# Altium footprint library aPassive.PcbLib: 212 footprints (part 4 of 14)
Each footprint in its own frame and in the unit in brackets; x right, y up, seen from the top. Pads: shape width x height; smd on the part's side, far side on the other; paste and mask are expansions set on the pad; w line width, h text height; cw(c..) or ccw(c..) is an arc to the next point about the centre after c.
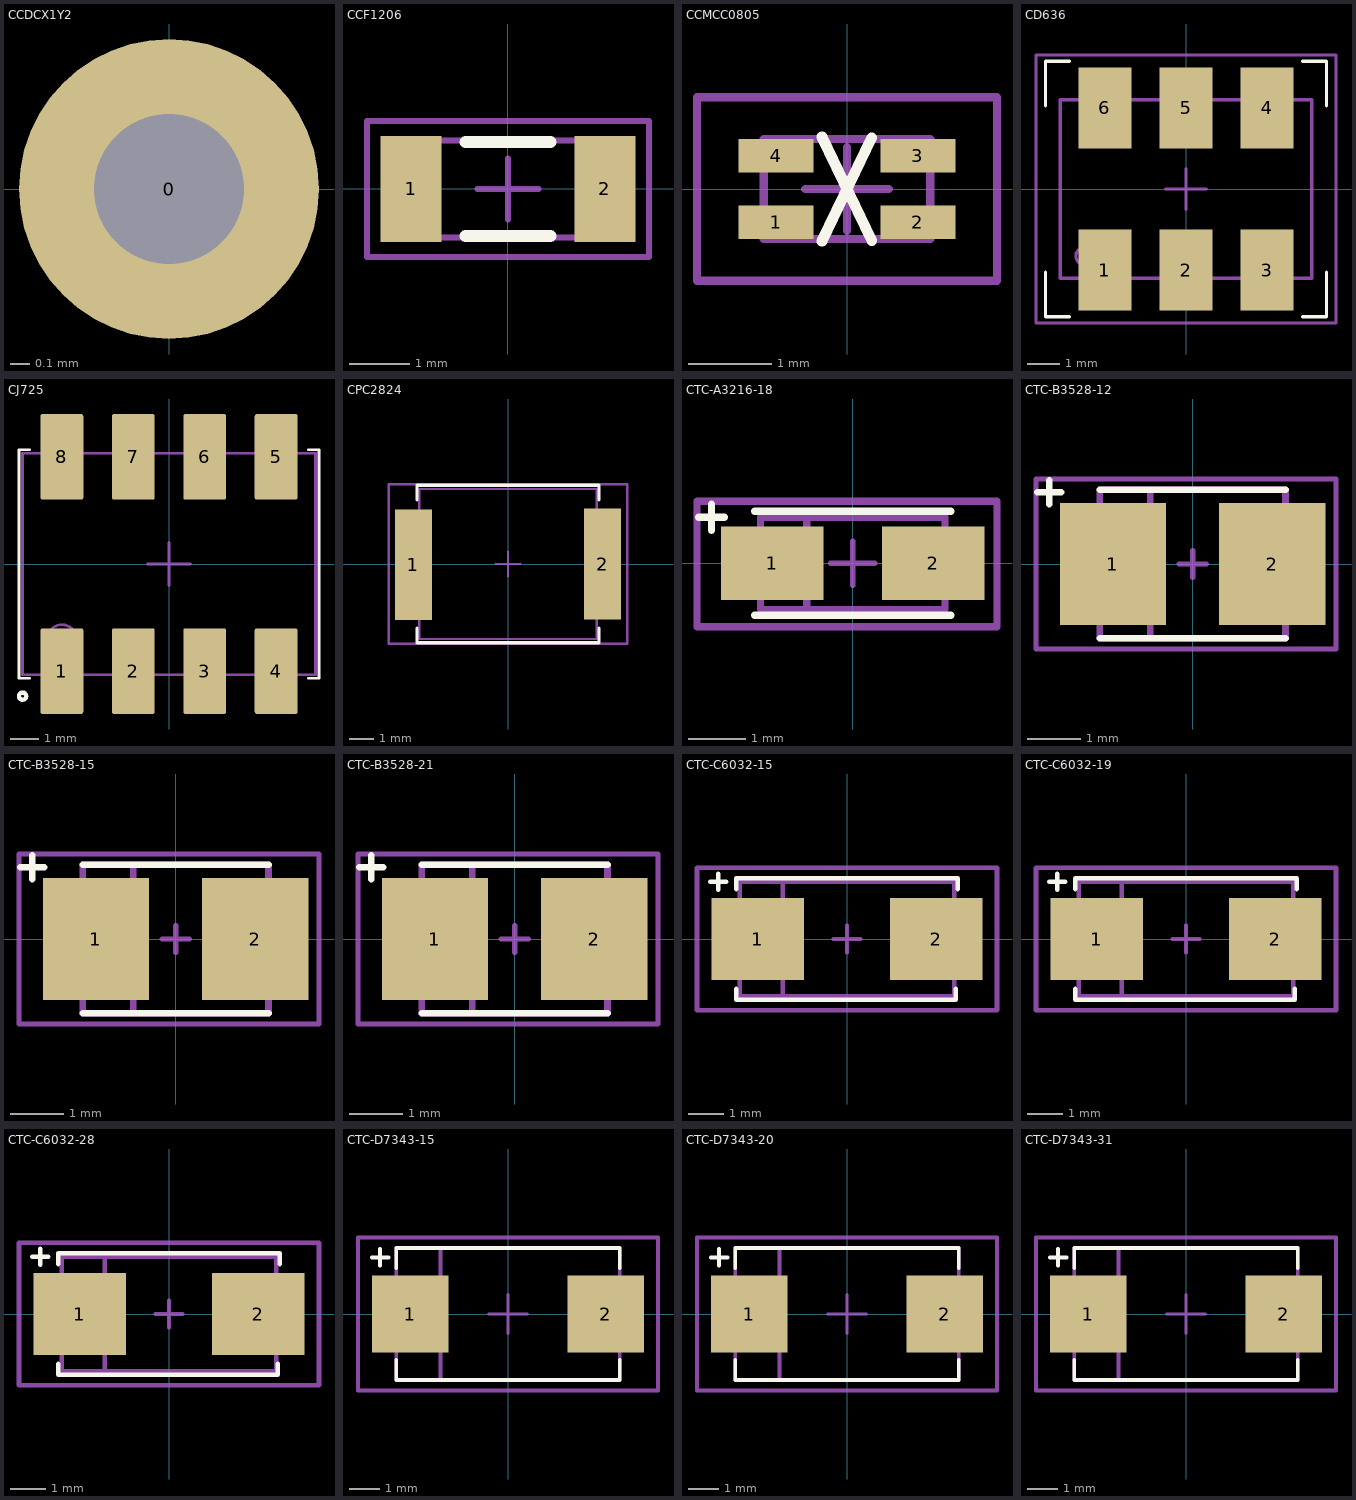
[diagram p3: the footprints below, top view; thin cyan lines are the x and y axes]

## CCDCX1Y2 [mil] "Disc capacitor K type"
height 629.92
pads (1):
  round 60 hole 30: 0(0,0)

## CCF1206 [mm] "Chip Capacitor Film, 2-Leads, Body 3,3x1,6mm, IPC Medium Density"
height 1.2
pads (2):
  rect 1x1.75 smd: 1(-1.6,0) 2(1.6,0)
Top Overlay:
  lines w0.2: -0.7,-0.775 0.7,-0.775 ; -0.7,0.775 0.7,0.775
Mechanical 13:
  lines w0.1: -1.65,-0.8 1.65,-0.8 1.65,0.8 -1.65,0.8 -1.65,-0.8
Mechanical 15:
  lines w0.1: -0.5,0 0.5,0 ; 0,-0.5 0,0.5 ; -2.325,-1.125 2.325,-1.125 2.325,1.125 -2.325,1.125 -2.325,-1.125
3D body: height 1.15, standoff 0, extent 1.1,-0.8 1.65,0.8
3D body: height 1.15, standoff 0, extent -1.65,-0.8 -1.1,0.8
3D body: height 1.15, standoff 0, extent -1.1,-0.8 1.1,0.8

## CCMCC0805 [mm] "Chip Common Mode Choke Coil 0805"
height 1.2
pads (4):
  rect 0.9x0.4 smd: 1(-0.85,-0.4) 2(0.85,-0.4) 3(0.85,0.4) 4(-0.85,0.4)
Top Overlay:
  lines w0.127: -0.3,-0.625 0.296,0.616 ; -0.3,0.625 0.296,-0.618
Mechanical 13:
  lines w0.102: -1,-0.6 1,-0.6 1,0.6 -1,0.6 -1,-0.6
Mechanical 15:
  lines w0.102: -0.5,0 0.5,0 ; 0,-0.5 0,0.5 ; -1.8,-1.1 1.8,-1.1 1.8,1.1 -1.8,1.1 -1.8,-1.1
3D body: height 1.2, standoff 0.17, extent -1,-0.6 1,0.6
3D body: height 0.17, standoff 0, extent -1,0.2 -0.4,0.6
3D body: height 0.17, standoff 0, extent -1,-0.6 -0.4,-0.2
3D body: height 0.17, standoff 0, extent 0.4,-0.6 1,-0.2
3D body: height 0.17, standoff 0, extent 0.4,0.2 1,0.6

## CD636 [mm] "X3 Frequency Multiplier 6 pin R2.54mm"
height 4.11
pads (6):
  rect 1.65x2.54 smd: 1(-2.54,-2.54) 2(0,-2.54) 3(2.54,-2.54) 4(2.54,2.54) 5(0,2.54) 6(-2.54,2.54)
Top Overlay:
  lines w0.102: -4.4,-2.6 -4.4,-4 -3.65,-4 ; -4.4,2.6 -4.4,4 -3.65,4 ; 3.65,-4 4.4,-4 4.4,-2.6 ; 3.65,4 4.4,4 4.4,2.6
Mechanical 13:
  lines w0.102: -2.95,-2.1 cw(c-3.2,-2.1) -2.95,-2.097 ; -3.937,-2.794 -3.937,2.794 3.937,2.794 3.937,-2.794 -3.937,-2.794
Mechanical 15:
  lines w0.102: -0.635,0 0.635,0 ; 0,-0.635 0,0.635 ; -4.7,-4.2 4.7,-4.2 4.7,4.2 -4.7,4.2 -4.7,-4.2
3D body: height 4.14, standoff 4.11, extent -3.454,-2.354 -2.945,-1.836
3D body: height 4.11, standoff 0, extent -3.937,-2.794 3.937,2.794

## CJ725 [mil]
pads (8):
  rrect10% 60x120 smd: 1(-150,-150) 2(-50,-150) 3(50,-150) 4(150,-150) 5(150,150) 6(50,150) 7(-50,150) 8(-150,150)
Top Overlay:
  circle w5.91: c-205,-185 r5
  lines w3.94: -195,-160 -210,-160 -210,160 -195,160 ; 195,-160 210,-160 210,160 195,160
Mechanical 13:
  circle w3.94: c-150,-105 r20
  lines w3.94: -205,-155 205,-155 205,155 -205,155 -205,-155
Mechanical 15:
  lines w3.94: -30,0 30,0 ; 0,-30 0,30
3D body: height 215, standoff 0, extent -205,-155 205,155

## CPC2824 [mm] "Chip plastic 2824 7.2x6.1x5mm"
height 5
pads (2):
  rect 1.5x4.5 smd: 1(-3.85,-0.025) 2(3.85,0)
Top Overlay:
  lines w0.127: -3.7,-2.6 -3.7,-3.2 3.7,-3.2 3.7,-2.6 ; -3.7,2.6 -3.7,3.2 3.7,3.2 3.7,2.6
Mechanical 13:
  lines w0.1: -3.6,-3.05 3.6,-3.05 3.6,3.05 -3.6,3.05 -3.6,-3.05
Mechanical 15:
  lines w0.1: -0.5,0 0.5,0 ; 0,-0.5 0,0.5 ; -4.85,-3.25 4.85,-3.25 4.85,3.25 -4.85,3.25 -4.85,-3.25
3D body: height 5, standoff 0, extent -3.1,-3.05 3.1,3.05
3D body: height 5, standoff 0, extent -3.6,-3.05 -3.1,3.05
3D body: height 5, standoff 0, extent 3.1,-3.05 3.6,3.05

## CTC-A3216-18 [mil] "Capacitor tantal chip A - 3216, H=1.6mm"
height 62.99
pads (2):
  rect 70x50 smd: 1(-55,0) 2(55,0)
Top Overlay:
  lines w5: -105.31,31.5 -87.6,31.5 ; -96.46,22.64 -96.46,40.35 ; -66.93,-35.43 66.93,-35.43 ; -66.93,35.43 66.93,35.43
Mechanical 13:
  lines w5: -57.09,0 -37.4,0 ; -47.24,-9.84 -47.24,9.84 ; -31.5,-31.5 -31.5,31.5 ; -62.99,-31.5 -62.99,31.5 62.99,31.5 62.99,-31.5 -62.99,-31.5
Mechanical 15:
  lines w4: -15,0 15,0 ; 0,-15 0,15
  lines w5: -106.3,-43.31 98.43,-43.31 98.43,42.32 -106.3,42.32 -106.3,-43.31
3D body: height 63.39, standoff 62.99, extent -62.99,-31.5 -31.5,31.5
3D body: height 62.99, standoff 0, extent -62.99,-31.5 62.99,31.5
3D body: height 39.37, standoff 0, extent -67.91,-19.68 -62.99,19.68
3D body: height 39.37, standoff 0, extent 62.99,-19.68 67.91,19.68

## CTC-B3528-12 [mm] "Capacitor Tantal Chip B - 3528, H=1.2mm"
height 1.2
pads (2):
  rect 2x2.3 smd: 1(-1.5,0) 2(1.5,0)
Top Overlay:
  lines w0.127: -2.925,1.35 -2.475,1.35 ; -2.7,1.125 -2.7,1.575 ; -1.75,-1.4 1.75,-1.4 ; -1.75,1.4 1.75,1.4
Mechanical 13:
  lines w0.127: -1.525,0 -1.025,0 ; -1.275,-0.25 -1.275,0.25 ; -0.8,-1.4 -0.8,1.4 ; -1.75,-1.4 -1.75,1.4 1.75,1.4 1.75,-1.4 -1.75,-1.4
Mechanical 15:
  lines w0.1: -0.254,0 0.254,0 ; 0,-0.254 0,0.254
  lines w0.102: -2.95,-1.6 -2.95,1.6 2.7,1.6 2.7,-1.6 -2.95,-1.6
3D body: height 1.21, standoff 1.2, extent -1.75,-1.4 -0.8,1.4
3D body: height 1.2, standoff 0, extent -1.75,-1.4 1.75,1.4
3D body: height 0.65, standoff 0, extent -1.925,-1 -1.75,1
3D body: height 0.65, standoff 0, extent 1.75,-1 1.925,1

## CTC-B3528-15 [mm] "Capacitor Tantal Chip B - 3528, H=1.5mm"
height 1.5
pads (2):
  rect 2x2.3 smd: 1(-1.5,0) 2(1.5,0)
Top Overlay:
  lines w0.127: -2.925,1.35 -2.475,1.35 ; -2.7,1.125 -2.7,1.575 ; -1.75,-1.4 1.75,-1.4 ; -1.75,1.4 1.75,1.4
Mechanical 13:
  lines w0.127: -1.525,0 -1.025,0 ; -1.275,-0.25 -1.275,0.25 ; -0.8,-1.4 -0.8,1.4 ; -1.75,-1.4 1.75,-1.4 1.75,1.4 -1.75,1.4 -1.75,-1.4
Mechanical 15:
  lines w0.1: -0.254,0 0.254,0 ; 0,-0.254 0,0.254
  lines w0.102: -2.95,-1.6 2.7,-1.6 2.7,1.6 -2.95,1.6 -2.95,-1.6
3D body: height 0.8, standoff 0, extent 1.75,-1 1.925,1
3D body: height 0.8, standoff 0, extent -1.925,-1 -1.75,1
3D body: height 1.5, standoff 0, extent -1.75,-1.4 1.75,1.4
3D body: height 1.51, standoff 1.5, extent -1.75,-1.4 -0.8,1.4

## CTC-B3528-21 [mm] "Capacitor Tantal Chip B - 3528, H=1.9mm"
height 1.9
pads (2):
  rect 2x2.3 smd: 1(-1.5,0) 2(1.5,0)
Top Overlay:
  lines w0.127: -2.925,1.35 -2.475,1.35 ; -2.7,1.125 -2.7,1.575 ; -1.75,-1.4 1.75,-1.4 ; -1.75,1.4 1.75,1.4
Mechanical 13:
  lines w0.127: -1.525,0 -1.025,0 ; -1.275,-0.25 -1.275,0.25 ; -0.8,-1.4 -0.8,1.4 ; -1.75,-1.4 -1.75,1.4 1.75,1.4 1.75,-1.4 -1.75,-1.4
Mechanical 15:
  lines w0.1: -0.254,0 0.254,0 ; 0,-0.254 0,0.254
  lines w0.102: -2.95,-1.6 -2.95,1.6 2.7,1.6 2.7,-1.6 -2.95,-1.6
3D body: height 1.91, standoff 1.9, extent -1.75,-1.4 -0.8,1.4
3D body: height 1.9, standoff 0, extent -1.75,-1.4 1.75,1.4
3D body: height 1, standoff 0, extent 1.75,-1 1.925,1
3D body: height 1, standoff 0, extent -1.925,-1 -1.75,1

## CTC-C6032-15 [mm] "Capacitor tantal chip C - 6032, H=1.5mm"
height 1.5
pads (2):
  rect 2.6x2.3 smd: 1(-2.5,0) 2(2.5,0)
Top Overlay:
  lines w0.127: -3.825,1.6 -3.375,1.6 ; -3.6,1.375 -3.6,1.825 ; -3.1,-1.4 -3.1,-1.7 3.048,-1.7 3.048,-1.397 ; -3.1,1.4 -3.1,1.7 3.1,1.7 3.1,1.4
Mechanical 13:
  lines w0.127: -2.65,0 -2.15,0 ; -2.4,-0.25 -2.4,0.25 ; -1.8,-1.6 -1.8,1.6 ; -3,-1.6 3,-1.6 3,1.6 -3,1.6 -3,-1.6
Mechanical 15:
  lines w0.102: -0.381,0 0.381,0 ; 0,-0.381 0,0.381
  lines w0.127: -4.2,-2 -4.2,2 4.2,2 4.2,-2 -4.2,-2
3D body: height 0.8, standoff 0, extent 3,-1 3.175,1
3D body: height 0.8, standoff 0, extent -3.175,-1 -3,1
3D body: height 1.51, standoff 1.5, extent -3,-1.6 -1.8,1.6
3D body: height 1.5, standoff 0, extent -3,-1.6 3,1.6

## CTC-C6032-19 [mm] "Capacitor tantal chip C - 6032, H=1.9mm"
height 1.9
pads (2):
  rect 2.6x2.3 smd: 1(-2.5,0) 2(2.5,0)
Top Overlay:
  lines w0.127: -3.825,1.6 -3.375,1.6 ; -3.6,1.375 -3.6,1.825 ; -3.1,-1.4 -3.1,-1.7 3.048,-1.7 3.048,-1.397 ; -3.1,1.4 -3.1,1.7 3.1,1.7 3.1,1.4
Mechanical 13:
  lines w0.127: -2.65,0 -2.15,0 ; -2.4,-0.25 -2.4,0.25 ; -1.8,-1.6 -1.8,1.6 ; -3,-1.6 -3,1.6 3,1.6 3,-1.6 -3,-1.6
Mechanical 15:
  lines w0.102: -0.381,0 0.381,0 ; 0,-0.381 0,0.381
  lines w0.127: -4.2,-2 4.2,-2 4.2,2 -4.2,2 -4.2,-2
3D body: height 1, standoff 0, extent 3,-1 3.175,1
3D body: height 1, standoff 0, extent -3.175,-1 -3,1
3D body: height 1.9, standoff 0, extent -3,-1.6 3,1.6
3D body: height 1.91, standoff 1.9, extent -3,-1.6 -1.8,1.6

## CTC-C6032-28 [mm] "Capacitor tantal chip C - 6032, H=2.8mm"
height 2.8
pads (2):
  rect 2.6x2.3 smd: 1(-2.5,0) 2(2.5,0)
Top Overlay:
  lines w0.127: -3.825,1.6 -3.375,1.6 ; -3.6,1.375 -3.6,1.825 ; -3.1,-1.4 -3.1,-1.7 3.048,-1.7 3.048,-1.397 ; -3.1,1.4 -3.1,1.7 3.1,1.7 3.1,1.4
Mechanical 13:
  lines w0.127: -2.65,0 -2.15,0 ; -2.4,-0.25 -2.4,0.25 ; -1.8,-1.6 -1.8,1.6 ; -3,-1.6 3,-1.6 3,1.6 -3,1.6 -3,-1.6
Mechanical 15:
  lines w0.102: -0.381,0 0.381,0 ; 0,-0.381 0,0.381
  lines w0.127: -4.2,-2 -4.2,2 4.2,2 4.2,-2 -4.2,-2
3D body: height 2.81, standoff 2.8, extent -3,-1.6 -1.8,1.6
3D body: height 2.8, standoff 0, extent -3,-1.6 3,1.6
3D body: height 1.5, standoff 0, extent -3.175,-1 -3,1
3D body: height 1.5, standoff 0, extent 3,-1 3.175,1

## CTC-D7343-15 [mm] "Capacitor Tantal Chip D - 7343, H=1.5mm"
height 1.5
pads (2):
  rect 2.5x2.5 smd: 1(-3.2,0) 2(3.2,0)
Top Overlay:
  lines w0.127: -4.45,1.85 -3.9,1.85 ; -4.175,1.575 -4.175,2.125 ; -3.65,-1.5 -3.65,-2.15 3.65,-2.15 3.65,-1.5 ; -3.65,1.5 -3.65,2.15 3.65,2.15 3.65,1.5
Mechanical 13:
  lines w0.127: -3.25,0 -2.65,0 ; -2.95,-0.3 -2.95,0.3 ; -2.2,-2.15 -2.2,2.15 ; -3.65,-2.15 -3.65,2.15 3.65,2.15 3.65,-2.15 -3.65,-2.15
Mechanical 15:
  lines w0.102: -0.635,0 0.635,0 ; 0,-0.635 0,0.635
  lines w0.127: -4.9,-2.5 4.9,-2.5 4.9,2.5 -4.9,2.5 -4.9,-2.5
3D body: height 1.5, standoff 0, extent -3.65,-2.15 3.65,2.15
3D body: height 1.51, standoff 1.5, extent -3.65,-2.15 -2.2,2.15
3D body: height 0.8, standoff 0, extent -4,-1.1 -3.65,1.1
3D body: height 0.8, standoff 0, extent 3.65,-1.1 4,1.1

## CTC-D7343-20 [mm] "Capacitor Tantal Chip D - 7343, H=1.9mm"
height 1.9
pads (2):
  rect 2.5x2.5 smd: 1(-3.2,0) 2(3.2,0)
Top Overlay:
  lines w0.127: -4.45,1.85 -3.9,1.85 ; -4.175,1.575 -4.175,2.125 ; -3.65,-1.5 -3.65,-2.15 3.65,-2.15 3.65,-1.5 ; -3.65,1.5 -3.65,2.15 3.65,2.15 3.65,1.5
Mechanical 13:
  lines w0.127: -3.25,0 -2.65,0 ; -2.95,-0.3 -2.95,0.3 ; -2.2,-2.15 -2.2,2.15 ; -3.65,-2.15 -3.65,2.15 3.65,2.15 3.65,-2.15 -3.65,-2.15
Mechanical 15:
  lines w0.102: -0.635,0 0.635,0 ; 0,-0.635 0,0.635
  lines w0.127: -4.9,-2.5 4.9,-2.5 4.9,2.5 -4.9,2.5 -4.9,-2.5
3D body: height 1.1, standoff 0, extent 3.65,-1.1 4,1.1
3D body: height 1.1, standoff 0, extent -4,-1.1 -3.65,1.1
3D body: height 1.9, standoff 0, extent -3.65,-2.15 3.65,2.15
3D body: height 1.91, standoff 1.9, extent -3.65,-2.15 -2.2,2.15

## CTC-D7343-31 [mm] "Capacitor Tantal Chip D - 7343, H=2.8mm"
height 2.8
pads (2):
  rect 2.5x2.5 smd: 1(-3.2,0) 2(3.2,0)
Top Overlay:
  lines w0.127: -4.45,1.85 -3.9,1.85 ; -4.175,1.575 -4.175,2.125 ; -3.65,-1.5 -3.65,-2.15 3.65,-2.15 3.65,-1.5 ; -3.65,1.5 -3.65,2.15 3.65,2.15 3.65,1.5
Mechanical 13:
  lines w0.127: -3.25,0 -2.65,0 ; -2.95,-0.3 -2.95,0.3 ; -2.2,-2.15 -2.2,2.15 ; -3.65,-2.15 -3.65,2.15 3.65,2.15 3.65,-2.15 -3.65,-2.15
Mechanical 15:
  lines w0.102: -0.635,0 0.635,0 ; 0,-0.635 0,0.635
  lines w0.127: -4.9,-2.5 4.9,-2.5 4.9,2.5 -4.9,2.5 -4.9,-2.5
3D body: height 2.8, standoff 0, extent -3.65,-2.15 3.65,2.15
3D body: height 2.81, standoff 2.8, extent -3.65,-2.15 -2.2,2.15
3D body: height 1.6, standoff 0, extent -4,-1.1 -3.65,1.1
3D body: height 1.6, standoff 0, extent 3.65,-1.1 4,1.1